# Altium footprint library HDRV6W64P254_2X3_762X508X864P.PcbLib: 1 footprints
Each footprint in its own frame and in the unit in brackets; x right, y up, seen from the top. Pads: shape width x height; smd on the part's side, far side on the other; paste and mask are expansions set on the pad; w line width, h text height; cw(c..) or ccw(c..) is an arc to the next point about the centre after c.
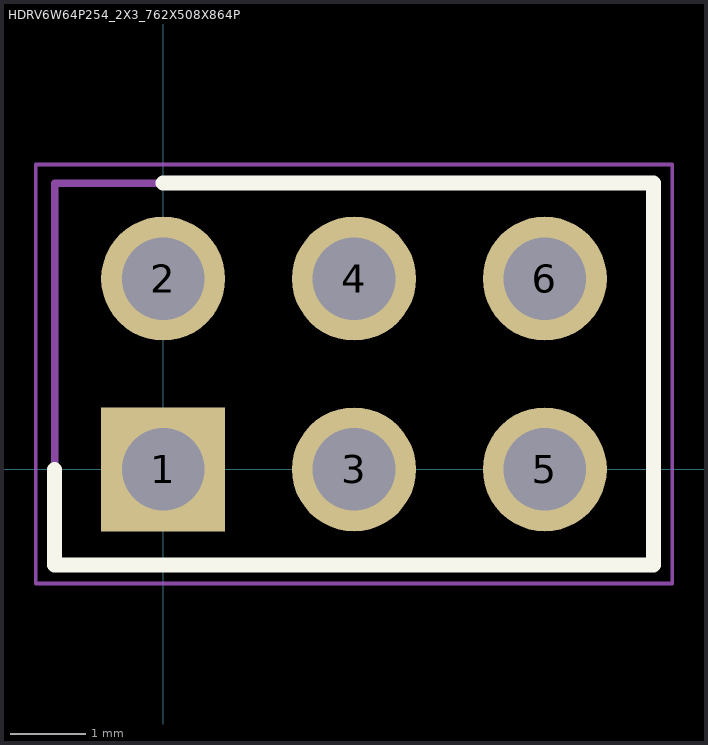
[diagram p0: the footprint, top view; thin cyan lines are the x and y axes]

## HDRV6W64P254_2X3_762X508X864P [mm]
pads (6):
  rect 1.65x1.65 / inner round 1.65 / far side rect 1.65x1.65 hole 1.1: 1(0,0)
  round 1.65 hole 1.1: 2(0,2.54) 3(2.54,0) 4(2.54,2.54) 5(5.08,0) 6(5.08,2.54)
Top Overlay:
  lines w0.2: -1.445,0 -1.445,-1.27 6.525,-1.27 6.525,3.81 0,3.81
Mechanical 15:
  lines w0.1: -1.445,-1.27 -1.445,3.81 6.525,3.81 6.525,-1.27 -1.445,-1.27
Mechanical 20:
  lines w0.05: -1.695,-1.52 -1.695,4.06 6.775,4.06 6.775,-1.52 -1.695,-1.52